# Altium footprint library Res_Yageo_RT1206BRD0710KL_eec_MFG.PcbLib: 1 footprints
Each footprint in its own frame and in the unit in brackets; x right, y up, seen from the top. Pads: shape width x height; smd on the part's side, far side on the other; paste and mask are expansions set on the pad; w line width, h text height; cw(c..) or ccw(c..) is an arc to the next point about the centre after c.
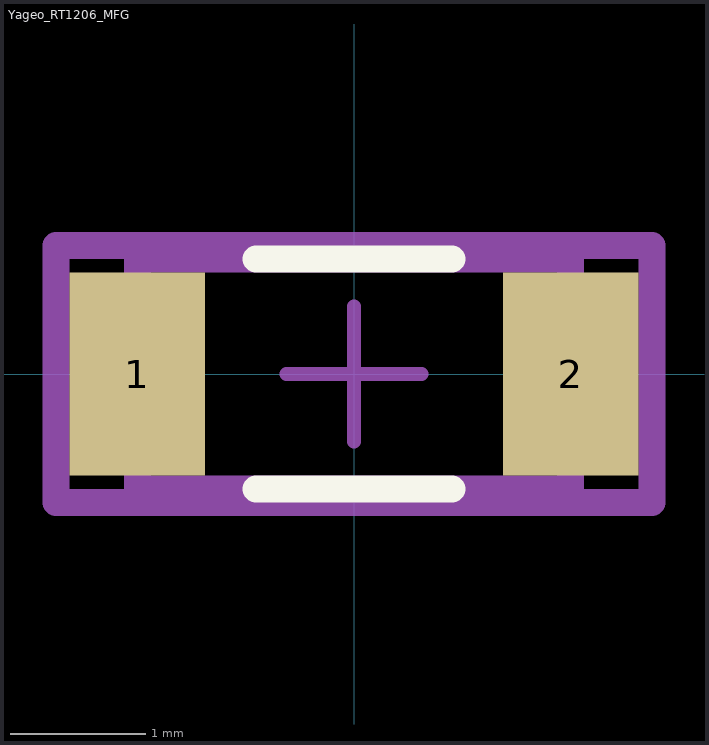
[diagram p0: the footprint, top view; thin cyan lines are the x and y axes]

## Yageo_RT1206_MFG [mm]
pads (2):
  rect 1x1.5 smd paste+0 mask+0: 1(-1.6,0) 2(1.6,0)
Top Overlay:
  lines w0.2: -0.725,-0.85 0.725,-0.85 ; -0.725,0.85 0.725,0.85
Mechanical 10:
  lines w0.2: -2.2,-0.95 2.2,-0.95 2.2,0.95 -2.2,0.95 -2.2,-0.95
  text ".Designator" at 0,0 h1
Mechanical 12:
  lines w0.2: -1.6,-0.85 1.6,-0.85 1.6,0.85 -1.6,0.85 -1.6,-0.85
Mechanical 15:
  lines w0.1: -0.5,0 0.5,0 ; 0,-0.5 0,0.5
  lines w0.2: -2.2,-0.95 2.2,-0.95 2.2,0.95 -2.2,0.95 -2.2,-0.95
3D body "Res_Yageo_RT1206BRD0710KL_eec.STEP": height 0.25, standoff 0, extent -2.2,-0.95 2.2,0.95